# Altium schematic symbol library MMSZ5264BT1G.Schlib: 1 symbol
Pins are listed as number, name and electrical type; pins without a type are passive.

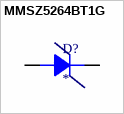
[diagram p0: symbol MMSZ5264BT1G]

## MMSZ5264BT1G
designator D?
60V SOD123 Zener Diode
pins: 1 A, 2 K